# Altium schematic symbol library C3225X7R2A106K250AC.SchLib: 1 symbol
Pins are listed as number, name and electrical type; pins without a type are passive.

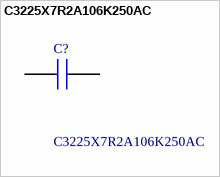
[diagram p0: symbol C3225X7R2A106K250AC]

## C3225X7R2A106K250AC
designator C?
Multilayer Ceramic Chip Capacitors, Capacitance=10?F, LxWxT:3.2x2.5x2.5mm; Manufacturer_Name: TDK; Geometry.Height: 2.3mm; Mouser Part Number: 810-C3225X7R2A106K25; Mouser Price/Stock: https://www.mouser.co.uk/ProductDetail/TDK/C3225X7R2A106K250AC?qs=rSMjJ%252B1ewcQNu1nTZev8UA%3D%3D; Manufacturer_Part_Number: C3225X7R2A106K250AC; Datasheet Link: https://product.tdk.com/info/en/catalog/datasheets/mlcc_commercial_midvoltage_en.pdf
footprint CAPC3225X230N
pins: 1, 2